# Altium footprint library passives.pcblib: 33 footprints (part 2 of 3)
Each footprint in its own frame and in the unit in brackets; x right, y up, seen from the top. Pads: shape width x height; smd on the part's side, far side on the other; paste and mask are expansions set on the pad; w line width, h text height; cw(c..) or ccw(c..) is an arc to the next point about the centre after c.
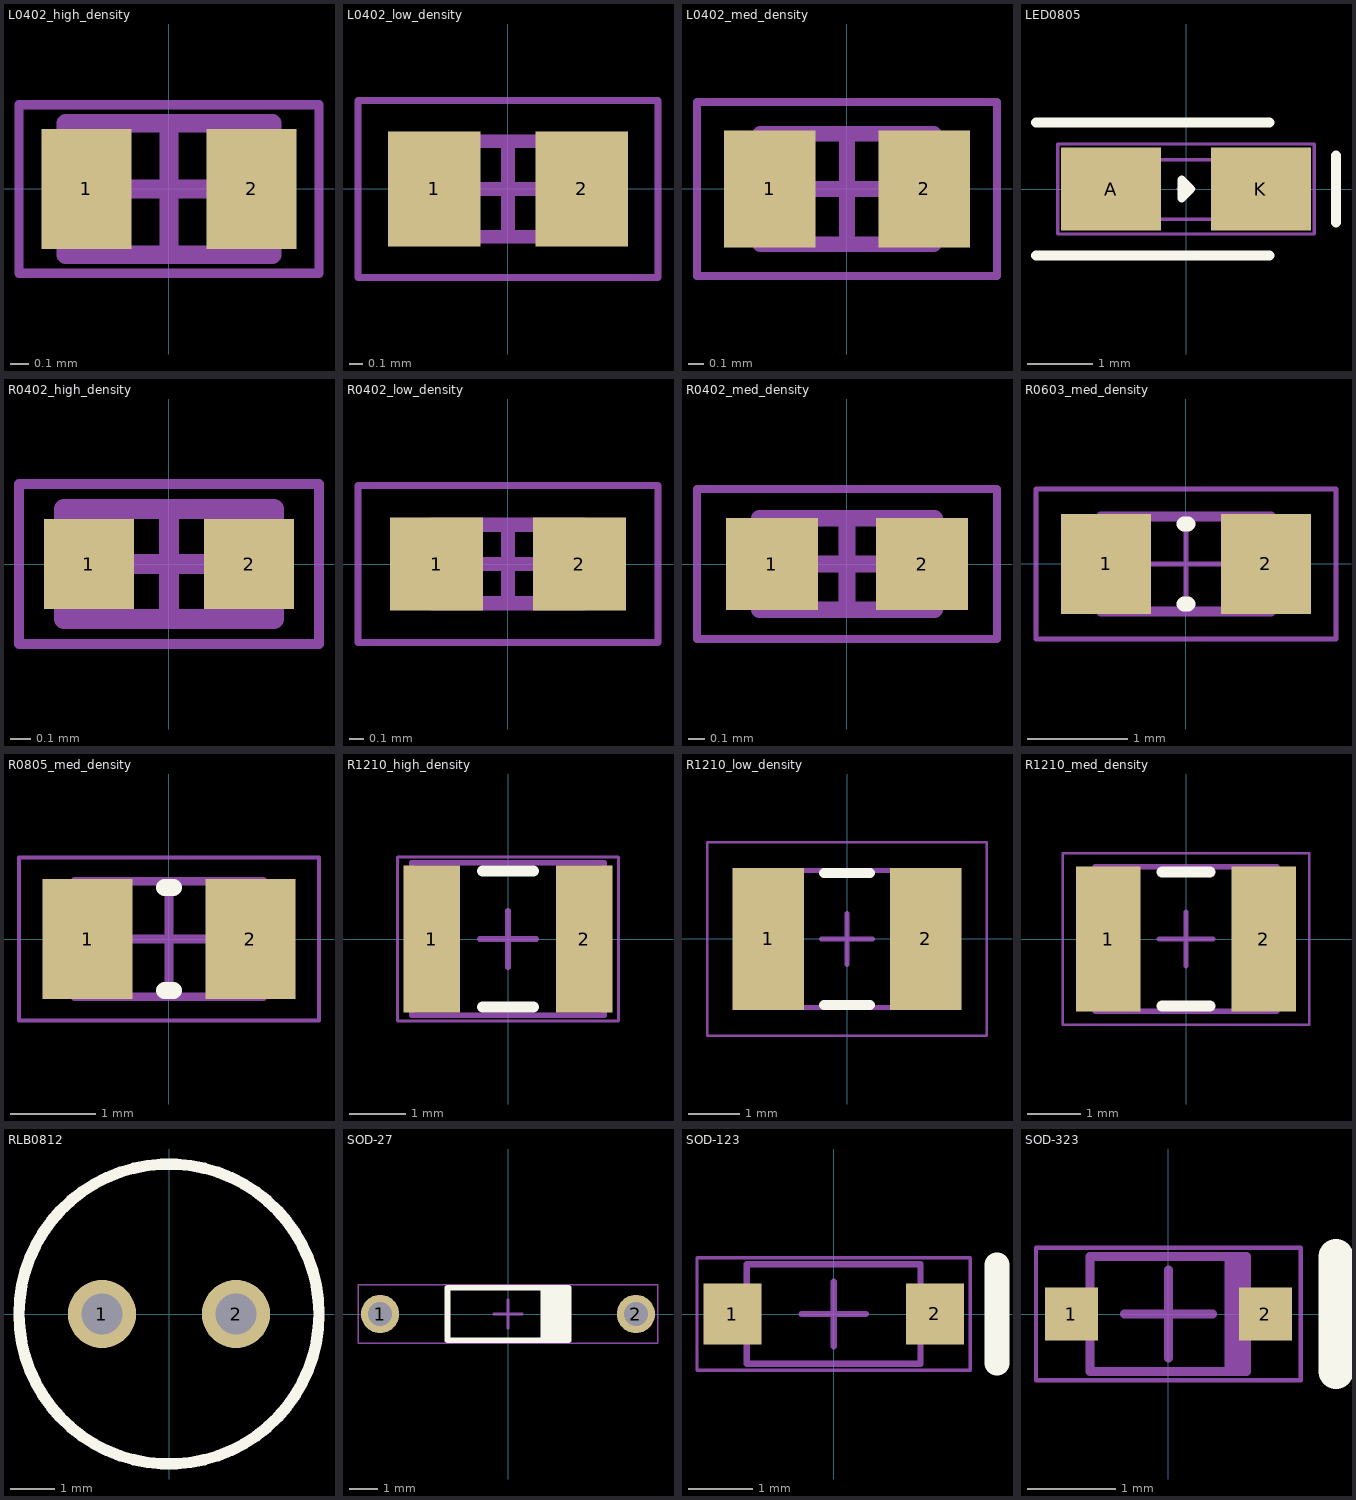
[diagram p1: the footprints below, top view; thin cyan lines are the x and y axes]

## L0402_high_density [mm] "Chip Inductor, 2-Leads, Body 1.1x0.7mm, IPC High Density"
height 0.6
pads (2):
  rect 0.48x0.64 smd: 1(-0.44,0) 2(0.44,0)
Mechanical 13:
  lines w0.1: -0.55,-0.35 -0.55,0.35 0.55,0.35 0.55,-0.35 -0.55,-0.35
Mechanical 15:
  lines w0.05: -0.8,-0.45 -0.8,0.45 0.8,0.45 0.8,-0.45 -0.8,-0.45
  lines w0.1: -0.35,0 0.35,0 ; 0,-0.35 0,0.35
3D body "INDC1006X06L.step": height 0.6, standoff 0, extent -0.55,-0.35 0.55,0.35

## L0402_low_density [mm] "Chip Inductor, 2-Leads, Body 1.1x0.7mm, IPC Low Density"
height 0.6
pads (2):
  rect 0.68x0.84 smd mask+0.102: 1(-0.54,0) 2(0.54,0)
Mechanical 13:
  lines w0.1: -0.55,-0.35 -0.55,0.35 0.55,0.35 0.55,-0.35 -0.55,-0.35
Mechanical 15:
  lines w0.05: -1.1,-0.65 -1.1,0.65 1.1,0.65 1.1,-0.65 -1.1,-0.65
  lines w0.1: -0.35,0 0.35,0 ; 0,-0.35 0,0.35
3D body "INDC1006X06M.step": height 0.6, standoff 0, extent -0.55,-0.35 0.55,0.35

## L0402_med_density [mm] "Chip Inductor, 2-Leads, Body 1.1x0.7mm, IPC Medium Density"
height 0.6
pads (2):
  rect 0.58x0.74 smd: 1(-0.49,0) 2(0.49,0)
Mechanical 13:
  lines w0.1: -0.55,-0.35 -0.55,0.35 0.55,0.35 0.55,-0.35 -0.55,-0.35
Mechanical 15:
  lines w0.05: -0.95,-0.55 -0.95,0.55 0.95,0.55 0.95,-0.55 -0.95,-0.55
  lines w0.1: -0.35,0 0.35,0 ; 0,-0.35 0,0.35
3D body "INDC1006X06N.step": height 0.6, standoff 0, extent -0.55,-0.35 0.55,0.35

## LED0805 [mil] "0805 LED"
pads (2):
  rect 60x50 smd: A(-45,0) K(45,0)
Top Overlay:
  lines w5: -2.5,-5.5 3,0 -2.5,5.5 -2.5,-5.5
  lines w6: -90,-40 50,-40 ; -90,40 50,40 ; 90,-20 90,20
Mechanical 13:
  lines w2: -40.6,-18.1 40.6,-18.1 40.6,17.58 -40.6,17.58 -40.6,-18.1
Mechanical 15:
  lines w2: -5,0 5,0 ; 0,-5 0,5 ; -77,-27 -77,27 77,27 77,-27 -77,-27
3D body "User Library-LED SMD0805.step": height 33.45, standoff 0.23, extent -40.6,-18.1 40.6,17.58

## R0402_high_density [mm] "Chip Resistor, 2-Leads, Body 1.00x0.50mm, IPC High Density"
height 0.4
pads (2):
  rect 0.45x0.45 smd: 1(-0.4,0) 2(0.4,0)
Mechanical 13:
  lines w0.1: -0.525,-0.275 -0.525,0.275 0.525,0.275 0.525,-0.275 -0.525,-0.275
Mechanical 15:
  lines w0.05: -0.75,-0.4 -0.75,0.4 0.75,0.4 0.75,-0.4 -0.75,-0.4
  lines w0.1: -0.275,0 0.275,0 ; 0,-0.275 0,0.275
3D body: height 0.4, standoff 0, extent -0.275,-0.275 0.275,0.275
3D body: height 0.4, standoff 0, extent -0.525,-0.275 -0.275,0.275
3D body: height 0.4, standoff 0, extent 0.275,-0.275 0.525,0.275

## R0402_low_density [mm] "Chip Resistor, 2-Leads, Body 1.00x0.50mm, IPC Low Density"
height 0.4
pads (2):
  rect 0.65x0.65 smd: 1(-0.5,0) 2(0.5,0)
Mechanical 13:
  lines w0.1: -0.525,-0.275 0.525,-0.275 0.525,0.275 -0.525,0.275 -0.525,-0.275
Mechanical 15:
  lines w0.05: -1.05,-0.55 1.05,-0.55 1.05,0.55 -1.05,0.55 -1.05,-0.55
  lines w0.1: -0.275,0 0.275,0 ; 0,-0.275 0,0.275
3D body: height 0.4, standoff 0, extent 0.275,-0.275 0.525,0.275
3D body: height 0.4, standoff 0, extent -0.525,-0.275 -0.275,0.275
3D body: height 0.4, standoff 0, extent -0.275,-0.275 0.275,0.275

## R0402_med_density [mm] "Chip Resistor, 2-Leads, Body 1.00x0.50mm, IPC Medium Density"
height 0.4
pads (2):
  rect 0.55x0.55 smd: 1(-0.45,0) 2(0.45,0)
Mechanical 13:
  lines w0.1: -0.525,-0.275 0.525,-0.275 0.525,0.275 -0.525,0.275 -0.525,-0.275
Mechanical 15:
  lines w0.05: -0.9,-0.45 0.9,-0.45 0.9,0.45 -0.9,0.45 -0.9,-0.45
  lines w0.1: -0.275,0 0.275,0 ; 0,-0.275 0,0.275
3D body: height 0.4, standoff 0, extent 0.275,-0.275 0.525,0.275
3D body: height 0.4, standoff 0, extent -0.525,-0.275 -0.275,0.275
3D body: height 0.4, standoff 0, extent -0.275,-0.275 0.275,0.275

## R0603_med_density [mm] "Chip Resistor, Body 1.6x0.8mm, IPC Medium Density"
height 0.6
pads (2):
  rect 0.9x1 smd: 1(-0.8,0) 2(0.8,0)
Top Overlay:
  lines w0.152: -0.02,-0.4 0.02,-0.4 ; -0.02,0.4 0.02,0.4
Mechanical 13:
  lines w0.1: -0.85,-0.475 -0.85,0.475 0.85,0.475 0.85,-0.475 -0.85,-0.475
Mechanical 15:
  lines w0.05: -0.475,0 0.475,0 ; 0,-0.475 0,0.475 ; -1.5,-0.75 -1.5,0.75 1.5,0.75 1.5,-0.75 -1.5,-0.75
3D body: height 0.6, standoff 0, extent 0.581,-0.474 0.85,0.475
3D body: height 0.6, standoff 0, extent -0.58,-0.474 0.581,0.475
3D body: height 0.6, standoff 0, extent -0.849,-0.474 -0.58,0.475

## R0805_med_density [mm] "Chip Resistor, Body 2.0x1.3mm, IPC Medium Density"
height 0.7
pads (2):
  rect 1.05x1.4 smd: 1(-0.95,0) 2(0.95,0)
Top Overlay:
  lines w0.2: -0.05,-0.6 0.05,-0.6 ; -0.05,0.6 0.05,0.6
Mechanical 13:
  lines w0.1: -1.1,-0.675 -1.1,0.675 1.1,0.675 1.1,-0.675 -1.1,-0.675
Mechanical 15:
  lines w0.05: -1.75,-0.95 -1.75,0.95 1.75,0.95 1.75,-0.95 -1.75,-0.95
  lines w0.1: -0.5,0 0.5,0 ; 0,-0.5 0,0.5
3D body "User Library-res0805.STEP": height 0.53, standoff 0, extent -1.465,-0.702 1.535,0.698

## R1210_high_density [mm] "Chip Resistor, 2-Leads, Body 3.20x2.50mm, IPC High Density"
height 0.6
pads (2):
  rect 1x2.6 smd: 1(-1.35,0) 2(1.35,0)
Top Overlay:
  lines w0.2: -0.45,-1.2 0.45,-1.2 ; -0.45,1.2 0.45,1.2
Mechanical 13:
  lines w0.1: -1.7,-1.35 1.7,-1.35 1.7,1.35 -1.7,1.35 -1.7,-1.35
Mechanical 15:
  lines w0.05: -1.95,-1.45 1.95,-1.45 1.95,1.45 -1.95,1.45 -1.95,-1.45
  lines w0.1: -0.5,0 0.5,0 ; 0,-0.5 0,0.5
3D body: height 0.6, standoff 0, extent 1.25,-1.35 1.7,1.35
3D body: height 0.6, standoff 0, extent -1.7,-1.35 -1.25,1.35
3D body: height 0.6, standoff 0, extent -1.25,-1.35 1.25,1.35

## R1210_low_density [mm] "Chip Resistor, 2-Leads, Body 3.20x2.50mm, IPC Low Density"
height 0.6
pads (2):
  rect 1.4x2.8 smd: 1(-1.55,0) 2(1.55,0)
Top Overlay:
  lines w0.2: -0.45,-1.3 0.45,-1.3 ; -0.45,1.3 0.45,1.3
Mechanical 13:
  lines w0.1: -1.7,-1.35 -1.7,1.35 1.7,1.35 1.7,-1.35 -1.7,-1.35
Mechanical 15:
  lines w0.05: -2.75,-1.9 -2.75,1.9 2.75,1.9 2.75,-1.9 -2.75,-1.9
  lines w0.1: -0.5,0 0.5,0 ; 0,-0.5 0,0.5
3D body: height 0.6, standoff 0, extent -1.25,-1.35 1.25,1.35
3D body: height 0.6, standoff 0, extent -1.7,-1.35 -1.25,1.35
3D body: height 0.6, standoff 0, extent 1.25,-1.35 1.7,1.35

## R1210_med_density [mm] "Chip Resistor, 2-Leads, Body 3.20x2.50mm, IPC Medium Density"
height 0.6
pads (2):
  rect 1.2x2.7 smd: 1(-1.45,0) 2(1.45,0)
Top Overlay:
  lines w0.2: -0.45,-1.25 0.45,-1.25 ; -0.45,1.25 0.45,1.25
Mechanical 13:
  lines w0.1: -1.7,-1.35 -1.7,1.35 1.7,1.35 1.7,-1.35 -1.7,-1.35
Mechanical 15:
  lines w0.05: -2.3,-1.6 -2.3,1.6 2.3,1.6 2.3,-1.6 -2.3,-1.6
  lines w0.1: -0.5,0 0.5,0 ; 0,-0.5 0,0.5
3D body: height 0.6, standoff 0, extent -1.25,-1.35 1.25,1.35
3D body: height 0.6, standoff 0, extent -1.7,-1.35 -1.25,1.35
3D body: height 0.6, standoff 0, extent 1.25,-1.35 1.7,1.35

## RLB0812 [mil] "Bourns RLB0812 through-hole inductor. 118mil +- 20mil hole spacing. 26 mil lead diameter."
pads (2):
  round 60 hole 36: 1(-59,0) 2(59,0)
Top Overlay:
  circle w10: c0,0 r132
3D body: height 394, standoff 0, extent -132,-132 132,132

## SOD-27 [mm] "SOD27, 2-Leads, Dia 1.85mm, Body Length 4.25mm, Pin Spacing 9mm"
height 1.85
pads (2):
  round 1.35 hole 0.85: 1(-4.5,0) 2(4.5,0)
Top Overlay:
  rectangle: 1.143,-0.925 2.125,0.925
  lines w0.2: -2.125,-0.925 2.125,-0.925 2.125,0.925 -2.125,0.925 -2.125,-0.925
Mechanical 13:
  lines w0.1: -2.125,-0.925 -2.125,0.925 2.125,0.925 2.125,-0.925 -2.125,-0.925
Mechanical 15:
  lines w0.05: -5.275,-1.025 5.275,-1.025 5.275,1.025 -5.275,1.025 -5.275,-1.025
  lines w0.1: -0.5,0 0.5,0 ; 0,-0.5 0,0.5
3D body: height 1.2, standoff 0.64, extent 4.223,-0.279 4.78,0.279
3D body: height 1.2, standoff 0.64, extent -4.777,-0.279 -4.22,0.279
3D body: height 1.2, standoff 0.64, extent -4.5,-0.279 -2.125,0.28
3D body: height 1.2, standoff 0.64, extent 2.125,-0.279 4.5,0.279
3D body: height 0.92, standoff -2, extent 4.222,-0.279 4.78,0.28
3D body: height 0.92, standoff -2, extent -4.778,-0.279 -4.22,0.28
3D body: height 1.84, standoff 0, extent -2.125,-0.925 2.125,0.921

## SOD-123 [mm] "SOD123, 2-Leads, Body 2.7x1.55mm, Height 1.45mm"
height 1.45
pads (2):
  rect 0.9x0.95 smd: 1(-1.575,0) 2(1.575,0)
Top Overlay:
  lines w0.381: 2.54,-0.762 2.54,0.762
Mechanical 13:
  lines w0.1: -1.35,-0.775 1.35,-0.775 1.35,0.775 -1.35,0.775 -1.35,-0.775
Mechanical 15:
  lines w0.05: -2.125,-0.875 2.125,-0.875 2.125,0.875 -2.125,0.875 -2.125,-0.875
  lines w0.1: -0.5,0 0.5,0 ; 0,-0.5 0,0.5
3D body: height 1.45, standoff 0, extent -1.35,-0.775 1.35,0.775

## SOD-323 [mm] "SMD, 2-Leads, Body 1.775x1.3mm"
height 1.15
pads (2):
  rect 0.6x0.6 smd: 1(-1.1,0) 2(1.1,0)
Top Overlay:
  lines w0.4: 1.9,-0.65 1.9,0.65
Mechanical 13:
  region: 0.887,0.65 0.635,0.65 0.635,-0.65 0.887,-0.65
  lines w0.1: -0.887,-0.65 -0.887,0.65 0.887,0.65 0.887,-0.65 -0.887,-0.65
Mechanical 15:
  lines w0.05: -1.5,-0.75 1.5,-0.75 1.5,0.75 -1.5,0.75 -1.5,-0.75
  lines w0.1: -0.5,0 0.5,0 ; 0,-0.5 0,0.5
3D body: height 1.15, standoff 0.1, extent -0.887,-0.65 0.887,0.65